# Altium footprint library sanziqi_v1.2.PcbLib: 32 footprints (part 1 of 2)
Each footprint in its own frame and in the unit in brackets; x right, y up, seen from the top. Pads: shape width x height; smd on the part's side, far side on the other; paste and mask are expansions set on the pad; w line width, h text height; cw(c..) or ccw(c..) is an arc to the next point about the centre after c.
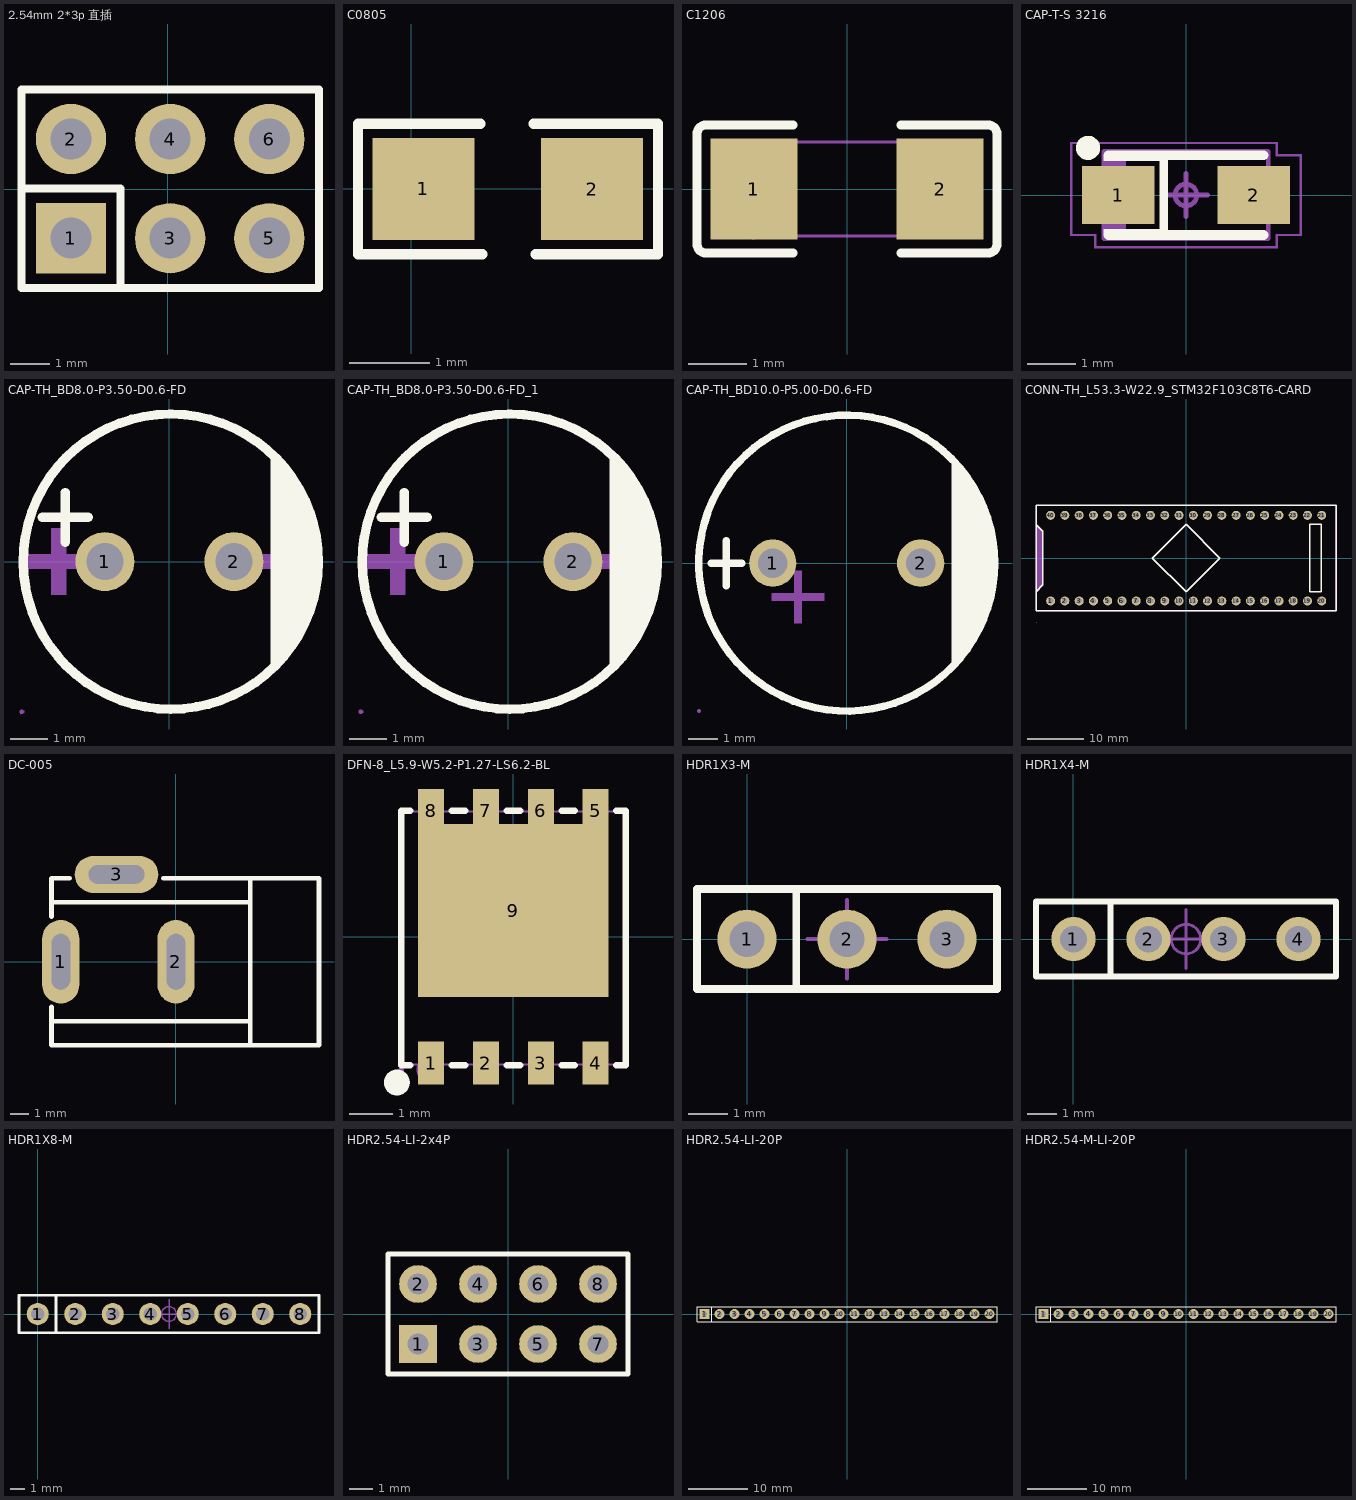
[diagram p0: the footprints below, top view; thin cyan lines are the x and y axes]

## 2.54mm 2*3p 直插 [mm]
height 2
pads (6):
  rect 1.8x1.8 hole 1.05 paste+0 mask+0.051: 1(-2.48,-1.25)
  round 1.8 hole 1.05 paste+0 mask+0.051: 2(-2.48,1.29) 3(0.06,-1.25) 4(0.06,1.29) 5(2.6,-1.25) 6(2.6,1.29)
Top Overlay:
  lines w0.203: -3.75,0.022 -1.21,0.022 -1.21,-2.52 ; -0.998,-2.52 3.87,-2.52 ; 3.87,-2.52 -3.75,-2.52 -3.75,2.56 3.87,2.56 3.87,-2.52
Bottom Component Outline:
  region: 2.28,-0.93 2.92,-0.93 2.92,-1.57 2.28,-1.57
  region: 2.28,1.61 2.92,1.61 2.92,0.97 2.28,0.97
  region: -0.26,1.61 0.38,1.61 0.38,0.97 -0.26,0.97
  region: -0.26,-0.93 0.38,-0.93 0.38,-1.57 -0.26,-1.57
  region: -2.8,-0.93 -2.16,-0.93 -2.16,-1.57 -2.8,-1.57
  region: -2.8,1.61 -2.16,1.61 -2.16,0.97 -2.8,0.97
  region: -3.69,-2.48 -3.69,-2.455 -3.725,-2.42 -3.775,-2.42 -3.81,-2.455 -3.81,-2.48 -3.81,-2.505 -3.775,-2.54 -3.725,-2.54 -3.69,-2.505
  lines w0.051: -3.75,-2.48 3.87,-2.48 3.87,2.52 -3.75,2.52 -3.75,-2.48

## C0805 [mil]
pads (2):
  rect 50x50 smd: 1(6,0) 2(88.7,-0.1)
Top Overlay:
  lines w5: 34,32 -26,32 -26,-15 -26,-32 35,-32 ; 60,32 121,32 121,15 121,-32 61,-32
3D body "User Library-0805 SMD Capacitor.STEP": height 30.39, standoff -0.39, extent 7.93,-24.5 86.67,24.71

## C1206 [mm]
pads (2):
  rect 1.485x1.728 smd paste-100 mask+0.051: 1(-1.593,0) 2(1.593,0)
Top Overlay:
  lines w0.152: -0.926,-1.093 -2.411,-1.093 cw(c-2.411,-0.94) -2.564,-0.94 -2.564,0.94 cw(c-2.411,0.94) -2.411,1.093 -0.926,1.093 ; 0.926,-1.093 2.411,-1.093 ccw(c2.411,-0.94) 2.564,-0.94 2.564,0.94 ccw(c2.411,0.94) 2.411,1.093 0.926,1.093
Top Paste:
  region: 0.85,-0.764 0.85,-0.394 0.95,-0.294 1.255,-0.294 1.355,-0.194 1.355,0.194 1.255,0.294 0.95,0.294 0.85,0.394 0.85,0.764 0.95,0.864 2.235,0.864 2.335,0.764 2.335,-0.764 2.235,-0.864 0.95,-0.864
  region: -0.85,-0.764 -0.85,-0.394 -0.95,-0.294 -1.255,-0.294 -1.355,-0.194 -1.355,0.194 -1.255,0.294 -0.95,0.294 -0.85,0.394 -0.85,0.764 -0.95,0.864 -2.235,0.864 -2.335,0.764 -2.335,-0.764 -2.235,-0.864 -0.95,-0.864
Mechanical 15:
  region: -1.54,-0.8 -1.541,-0.776 -1.576,-0.742 -1.624,-0.742 -1.659,-0.776 -1.66,-0.8 -1.659,-0.824 -1.624,-0.858 -1.576,-0.858 -1.541,-0.824 -1.54,-0.8
  region: -1.6,-0.8 -1.6,0.8 -1.1,0.8 -1.1,-0.8
  region: 1.6,-0.8 1.6,0.8 1.1,0.8 1.1,-0.8
  lines w0.051: -1.6,-0.8 -1.6,0.8 1.6,0.8 1.6,-0.8 -1.6,-0.8

## CAP-T-S 3216 [mm]
height 2
pads (2):
  rect 1.5x1.2 smd: 1(-1.4,0) 2(1.4,0)
Top Overlay:
  circle w0.25: c-2.025,0.975 r0.125
  rectangle: -0.55,-0.9 -0.375,0.85
  region: -0.375,-0.7 -1.7,-0.7 -1.7,-0.825 -0.375,-0.825
  rectangle: -1.7,0.7 -0.375,0.85
  lines w0.2: -1.6,-0.825 1.6,-0.825 ; -1.6,0.825 1.6,0.825
Top Component Center:
  circle w0.1: c0,0 r0.225
  lines w0.1: -0.45,0 0.45,0 ; 0,-0.45 0,0.45
Top Component Outline:
  region: -1.9,-1.05 -1.9,-1.1 1.9,-1.1 1.9,-1.05
  region: 2.4,0.85 2.35,0.85 2.35,-0.85 2.4,-0.85
  region: 1.9,1.05 1.9,1.1 -2.4,1.1 -2.4,1.05
  rectangle: -2.4,-0.85 -2.35,1.1
  region: 1.85,0.85 1.85,0.8 2.4,0.8 2.4,0.85
  rectangle: 1.85,0.8 1.9,1.1
  region: 2.4,-0.85 2.4,-0.8 1.85,-0.8 1.85,-0.85
  rectangle: 1.85,-1.1 1.9,-0.8
  region: -1.85,-0.85 -1.85,-0.8 -2.4,-0.8 -2.4,-0.85
  region: -1.85,-0.8 -1.9,-0.8 -1.9,-1.1 -1.85,-1.1
Top Designator:
  text ".Designator" at -2.252,-0.151 h1
Mechanical 13:
  rectangle: -1.7,-0.9 -1.243,0.9
  lines w0.1: -1.7,-0.9 1.7,-0.9 1.7,0.9 -1.7,0.9 -1.7,-0.9
3D body "TAJ-A.STEP": height 1.6, standoff 0, extent -1.6,-0.8 1.6,0.8

## CAP-TH_BD8.0-P3.50-D0.6-FD [mm]
pads (2):
  round 1.6 hole 1: 1(-1.75,0) 2(1.75,0)
Top Overlay:
  region: 2.75,-3 2.941,-2.8 3.268,-2.355 3.536,-1.872 3.741,-1.359 3.88,-0.824 3.95,-0.276 3.95,0.276 3.88,0.824 3.741,1.359 3.536,1.872 3.268,2.355 2.941,2.8 2.75,3
  lines w0.254: -3.445,1.2 -2.2,1.2 ; -2.822,0.527 -2.822,1.873 ; 0.003,4 ccw(c0.038,0.001) 0.074,4
Mechanical 6:
  region: -3.2,0.5 -3.2,-0.9 -2.8,-0.9 -2.8,0.7 -2.8,0.9 -3.2,0.9
  region: -2.5,0.2 -3.9,0.2 -3.9,-0.2 -2.3,-0.2 -2.1,-0.2 -2.1,0.2
  region: 3.5,0.2 2.1,0.2 2.1,-0.2 3.7,-0.2 3.9,-0.2 3.9,0.2
Mechanical 15:
  region: -1.45,0 -1.451,0.059 -1.498,0.167 -1.582,0.25 -1.691,0.294 -1.809,0.294 -1.918,0.25 -2.002,0.167 -2.049,0.059 -2.05,0 -2.049,-0.059 -2.002,-0.167 -1.918,-0.25 -1.809,-0.294 -1.691,-0.294 -1.582,-0.25 -1.498,-0.167 -1.451,-0.059 -1.45,0
  region: 2.05,0 2.049,0.059 2.002,0.167 1.918,0.25 1.809,0.294 1.691,0.294 1.582,0.25 1.498,0.167 1.451,0.059 1.45,0 1.451,-0.059 1.498,-0.167 1.582,-0.25 1.691,-0.294 1.809,-0.294 1.918,-0.25 2.002,-0.167 2.049,-0.059 2.05,0
  region: -3.941,-4.072 -3.941,-4.047 -3.976,-4.012 -4.026,-4.012 -4.061,-4.047 -4.061,-4.072 -4.061,-4.096 -4.026,-4.132 -3.976,-4.132 -3.941,-4.096 -3.941,-4.072
  lines w0.051: -0.003,-4.072 cw(c-0.001,-0.072) -0.001,3.928 cw(c-0.001,-0.072) 0,-4.072 -0.003,-4.072

## CAP-TH_BD8.0-P3.50-D0.6-FD_1 [mm]
pads (2):
  round 1.6 hole 1: 1(-1.75,0) 2(1.75,0)
Top Overlay:
  region: 2.75,-3 2.94,-2.8 3.268,-2.355 3.536,-1.872 3.741,-1.359 3.88,-0.824 3.95,-0.276 3.95,0.276 3.88,0.824 3.741,1.359 3.536,1.872 3.268,2.355 2.94,2.8 2.75,3
  lines w0.254: -3.445,1.2 -2.2,1.2 ; -2.822,0.527 -2.822,1.873 ; 0.002,4 ccw(c0.038,0.001) 0.074,4
Mechanical 6:
  region: -3.2,0.5 -3.2,-0.9 -2.8,-0.9 -2.8,0.7 -2.8,0.9 -3.2,0.9
  region: -2.5,0.2 -3.9,0.2 -3.9,-0.2 -2.3,-0.2 -2.1,-0.2 -2.1,0.2
  region: 3.5,0.2 2.1,0.2 2.1,-0.2 3.7,-0.2 3.9,-0.2 3.9,0.2
Mechanical 15:
  region: -1.45,0 -1.451,0.059 -1.498,0.167 -1.582,0.25 -1.691,0.294 -1.809,0.294 -1.918,0.25 -2.002,0.167 -2.049,0.059 -2.05,0 -2.049,-0.059 -2.002,-0.167 -1.918,-0.25 -1.809,-0.294 -1.691,-0.294 -1.582,-0.25 -1.498,-0.167 -1.451,-0.059 -1.45,0
  region: 2.05,0 2.049,0.059 2.002,0.167 1.918,0.25 1.809,0.294 1.691,0.294 1.582,0.25 1.498,0.167 1.451,0.059 1.45,0 1.451,-0.059 1.498,-0.167 1.582,-0.25 1.691,-0.294 1.809,-0.294 1.918,-0.25 2.002,-0.167 2.049,-0.059 2.05,0
  region: -3.941,-4.072 -3.941,-4.047 -3.976,-4.012 -4.026,-4.012 -4.061,-4.047 -4.061,-4.072 -4.061,-4.096 -4.026,-4.132 -3.976,-4.132 -3.941,-4.096 -3.941,-4.072
  lines w0.051: -0.003,-4.072 cw(c-0.001,-0.072) -0.001,3.928 cw(c-0.001,-0.072) 0,-4.072 -0.003,-4.072

## CAP-TH_BD10.0-P5.00-D0.6-FD [mm]
pads (2):
  round 1.6 hole 1 paste+0 mask+0.05: 1(-2.5,0) 2(2.5,0)
Top Overlay:
  circle w0.254: c0,0 r5
  region: 3.556,3.556 3.556,-3.556 4.318,-2.54 4.826,-1.016 5.08,0.508 4.826,1.524
  lines w0.254: -4.572,0 -3.556,0 ; -4.064,-0.762 -4.064,0.762
Mechanical 6:
  region: -1.778,-0.762 -1.778,-2.032 -1.524,-2.032 -1.524,-0.254 -1.778,-0.254
  region: -2.54,-1.016 -0.762,-1.016 -0.762,-1.27 -2.54,-1.27
Mechanical 15:
  region: -4.94,-5 -4.94,-4.975 -4.975,-4.94 -5.025,-4.94 -5.06,-4.975 -5.06,-5 -5.06,-5.025 -5.025,-5.06 -4.975,-5.06 -4.94,-5.025 -4.94,-5
  region: 2.8,0 2.799,0.059 2.752,0.167 2.668,0.25 2.559,0.294 2.441,0.294 2.332,0.25 2.248,0.167 2.201,0.059 2.2,0 2.201,-0.059 2.248,-0.167 2.332,-0.25 2.441,-0.294 2.559,-0.294 2.668,-0.25 2.752,-0.167 2.799,-0.059 2.8,0
  region: -2.2,0 -2.201,0.059 -2.248,0.167 -2.332,0.25 -2.441,0.294 -2.559,0.294 -2.668,0.25 -2.752,0.167 -2.799,0.059 -2.8,0 -2.799,-0.059 -2.752,-0.167 -2.668,-0.25 -2.559,-0.294 -2.441,-0.294 -2.332,-0.25 -2.248,-0.167 -2.201,-0.059 -2.2,0
  lines w0.051: -5,0 cw(c0,0) 5,0 cw(c0,0) -5,0

## CONN-TH_L53.3-W22.9_STM32F103C8T6-CARD [mm]
pads (40):
  round 1.6 hole 1: 1(-24.13,-7.62) 2(-21.59,-7.62) 3(-19.05,-7.62) 4(-16.51,-7.62) 5(-13.97,-7.62) 6(-11.43,-7.62) 7(-8.89,-7.62) 8(-6.35,-7.62) 9(-3.81,-7.62) 10(-1.27,-7.62) 11(1.27,-7.62) 12(3.81,-7.62) 13(6.35,-7.62) 14(8.89,-7.62) 15(11.43,-7.62) 16(13.97,-7.62) 17(16.51,-7.62) 18(19.05,-7.62) 19(21.59,-7.62) 20(24.13,-7.62) 21(24.13,7.62) 22(21.59,7.62) 23(19.05,7.62) 24(16.51,7.62) 25(13.97,7.62) 26(11.43,7.62) 27(8.89,7.62) 28(6.35,7.62) 29(3.81,7.62) 30(1.27,7.62) 31(-1.27,7.62) 32(-3.81,7.62) 33(-6.35,7.62) 34(-8.89,7.62) 35(-11.43,7.62) 36(-13.97,7.62) 37(-16.51,7.62) 38(-19.05,7.62) 39(-21.59,7.62) 40(-24.13,7.62)
Top Overlay:
  lines w0.254: -26.67,-5.945 -25.5,-4.775 -25.5,4 -25.5,4.798 -26.67,5.968 ; -26.67,-9.398 26.67,-9.398 26.67,9.398 -26.67,9.398 -26.67,-9.398 ; -6,0 0,-6 6,0 0,6 -6,0 ; 22,-6 22,6 24,6 24,-6 22,-6
Mechanical 6:
  region: -26.67,5.968 -25.5,4.798 -25.5,-4.775 -26.67,-5.945
Mechanical 15:
  drawing of 45 lines, arcs and shapes, not listed

## DC-005 [mm] "DC母座5.5mm"
height 12.75
pads (3):
  oval 2x4.5 hole 1 slot 3 at 90 deg: 1(-6.2,0) 2(0,0)
  oval 4.5x2 hole 1 slot 3 at 0 deg: 3(-3.2,4.7)
Top Overlay:
  lines w0.254: -6.7,-3.2 3.92,-3.2 ; -6.7,-2.424 -6.7,-4.5 7.7,-4.5 7.7,4.5 -0.685,4.5 ; -6.7,2.425 -6.7,4.5 -5.715,4.5 ; -6.7,3.2 3.92,3.2 ; 4,-4.5 4,4.5
3D body "DC-005.STEP": height 11.25, standoff -3.75, extent -6.55,-4.5 7.5,4.8

## DFN-8_L5.9-W5.2-P1.27-LS6.2-BL [mm]
pads (9):
  rect 0.6x1 smd paste-100 mask+0.05: 1(-1.905,-2.925) 2(-0.635,-2.925) 3(0.635,-2.925) 4(1.905,-2.925) 5(1.905,2.925) 6(0.635,2.925) 7(-0.635,2.925) 8(-1.905,2.925)
  rect 4.41x4 smd paste-100 mask+0.05: 9(0,0.61)
Top Overlay:
  circle w0.3: c-2.7,-3.375 r0.15
  lines w0.152: -2.385,-2.975 -2.6,-2.975 -2.6,2.925 -2.385,2.925 ; -1.425,-2.975 -1.115,-2.975 ; -1.425,2.925 -1.115,2.925 ; -0.155,-2.975 0.155,-2.975 ; -0.155,2.925 0.155,2.925 ; 1.115,-2.975 1.425,-2.975 ; 1.115,2.925 1.425,2.925 ; 2.385,-2.975 2.6,-2.975 2.6,2.925 2.385,2.925
Top Paste:
  region: 2.205,3.425 1.605,3.425 1.605,2.61 0.935,2.61 0.935,3.425 0.335,3.425 0.335,2.61 -0.335,2.61 -0.335,3.425 -0.935,3.425 -0.935,2.61 -1.605,2.61 -1.605,3.425 -2.205,3.425 -2.205,-1.39 2.205,-1.39
  region: 1.605,-3.425 2.205,-3.425 2.205,-2.425 1.605,-2.425
  region: 0.335,-3.425 0.935,-3.425 0.935,-2.425 0.335,-2.425
  region: -0.935,-3.425 -0.335,-3.425 -0.335,-2.425 -0.935,-2.425
  region: -2.205,-3.425 -1.605,-3.425 -1.605,-2.425 -2.205,-2.425
Mechanical 6:
  circle w0.3: c-1.95,-3.075 r0.15
Mechanical 15:
  region: -2.54,-3.075 -2.54,-3.051 -2.575,-3.016 -2.624,-3.016 -2.659,-3.051 -2.66,-3.075 -2.659,-3.1 -2.624,-3.134 -2.575,-3.134 -2.54,-3.1 -2.54,-3.075
  region: -2.105,3.075 -1.705,3.075 -1.705,2.475 -2.105,2.475
  region: -0.835,3.075 -0.435,3.075 -0.435,2.475 -0.835,2.475
  region: 0.435,3.075 0.835,3.075 0.835,2.475 0.435,2.475
  region: 1.705,3.075 2.105,3.075 2.105,2.475 1.705,2.475
  region: 1.705,-2.475 2.105,-2.475 2.105,-3.075 1.705,-3.075
  region: 0.435,-2.475 0.835,-2.475 0.835,-3.075 0.435,-3.075
  region: -0.835,-2.475 -0.435,-2.475 -0.435,-3.075 -0.835,-3.075
  region: -2.105,-2.475 -1.705,-2.475 -1.705,-3.075 -2.105,-3.075
  region: -2.125,-1.27 -2.125,2.55 2.125,2.55 2.125,-1.27
  lines w0.051: -2.6,-2.955 -2.6,2.905 2.6,2.905 2.6,-2.955 -2.6,-2.955

## HDR1X3-M [mm]
height 2
pads (3):
  round 1.5 hole 0.9: 1(0,0) 2(2.54,0) 3(5.08,0)
Top Overlay:
  lines w0.2: 1.25,-1.25 1.25,1.25 ; -1.27,-1.27 -1.27,1.27 6.35,1.27 6.35,-1.27 -1.27,-1.27
Top Component Center:
  circle w0.1: c2.54,0 r0.5
  lines w0.1: 1.54,0 3.54,0 ; 2.54,-1 2.54,1
Top Component Outline:
  lines w0.1: -1.27,-1.27 -1.27,1.275 6.35,1.275 6.35,-1.27 -1.27,-1.27
Top Designator:
  text ".Designator" at 0.288,-0.226 h1
3D body "1001-3.STEP": height 8.54, standoff -3, extent -1.27,-1.27 6.35,1.27

## HDR1X4-M [mm]
height 2
pads (4):
  round 1.5 hole 0.9: 1(0,0) 2(2.54,0) 3(5.08,0) 4(7.62,0)
Top Overlay:
  lines w0.2: 1.25,-1.25 1.25,1.25 ; -1.27,-1.27 8.89,-1.27 8.89,1.27 -1.27,1.27 -1.27,-1.27
Top Component Center:
  circle w0.1: c3.81,0 r0.5
  lines w0.1: 2.81,0 4.81,0 ; 3.81,-1 3.81,1
Top Component Outline:
  lines w0.1: -1.27,-1.27 -1.27,1.275 8.89,1.275 8.89,-1.27 -1.27,-1.27
Top Designator:
  text ".Designator" at 1.558,-0.226 h1
3D body "1001-4.STEP": height 8.54, standoff -3, extent -1.27,-1.27 8.89,1.27

## HDR1X8-M [mm]
height 2
pads (8):
  round 1.5 hole 0.9: 1(0,0) 2(2.54,0) 3(5.08,0) 4(7.62,0) 5(10.16,0) 6(12.7,0) 7(15.24,0) 8(17.78,0)
Top Overlay:
  lines w0.2: 1.25,-1.25 1.25,1.25 ; -1.27,-1.27 19.05,-1.27 19.05,1.27 -1.27,1.27 -1.27,-1.27
Top Component Center:
  circle w0.1: c8.89,0 r0.5
  lines w0.1: 7.89,0 9.89,0 ; 8.89,-1 8.89,1
Top Component Outline:
  lines w0.1: -1.27,-1.27 19.05,-1.27 19.05,1.27 -1.27,1.27 -1.27,-1.27
Top Designator:
  text ".Designator" at 6.638,-0.226 h1
3D body "1001-8.STEP": height 8.54, standoff -3, extent -1.27,-1.27 19.05,1.27

## HDR2.54-LI-2x4P [mm] "双排排针，4x2脚"
pads (8):
  rect 1.6x1.6 hole 0.9: 1(-3.81,-1.27)
  round 1.6 hole 0.9: 2(-3.81,1.27) 3(-1.27,-1.27) 4(-1.27,1.27) 5(1.27,-1.27) 6(1.27,1.27) 7(3.81,-1.27) 8(3.81,1.27)
Top Overlay:
  lines w0.2: -2.328,-2.54 5.08,-2.54 5.08,2.54 -5.08,2.54 -5.08,-2.54 2.54,-2.54
3D body "HDR2.54-1x2P.STEP": height 8.5, standoff -3, extent 0,-2.54 2.54,2.54
3D body "HDR2.54-1x2P.STEP": height 8.5, standoff -3, extent 2.54,-2.54 5.08,2.54
3D body "HDR2.54-1x2P.STEP": height 8.5, standoff -3, extent -5.08,-2.54 -2.54,2.54
3D body "HDR2.54-1x2P.STEP": height 8.5, standoff -3, extent -2.54,-2.54 0,2.54

## HDR2.54-LI-20P [mm] "排针，20脚"
pads (20):
  rect 1.7x1.7 hole 0.9: 1(-24.13,0)
  round 1.7 hole 0.9: 2(-21.59,0) 3(-19.05,0) 4(-16.51,0) 5(-13.97,0) 6(-11.43,0) 7(-8.89,0) 8(-6.35,0) 9(-3.81,0) 10(-1.27,0) 11(1.27,0) 12(3.81,0) 13(6.35,0) 14(8.89,0) 15(11.43,0) 16(13.97,0)
  round 1.7 hole 0.762: 17(16.51,0) 18(19.05,0) 19(21.59,0) 20(24.13,0)
Top Overlay:
  lines w0.2: -22.88,-1.25 -22.88,1.25 ; -25.4,-1.27 -25.4,1.27 -23.495,1.27 25.4,1.27 25.4,-1.27 -25.4,-1.27
3D body "HDR2.54-1P.STEP": height 2.54, standoff -8.96, extent -25.4,-1.27 -22.86,1.27
3D body "HDR2.54-1P.STEP": height 2.54, standoff -8.96, extent -22.86,-1.27 -20.32,1.27
3D body "HDR2.54-1P.STEP": height 2.54, standoff -8.96, extent -20.32,-1.27 -17.78,1.27
3D body "HDR2.54-1P.STEP": height 2.54, standoff -8.96, extent -17.78,-1.27 -15.24,1.27
3D body "HDR2.54-1P.STEP": height 2.54, standoff -8.96, extent -15.24,-1.27 -12.7,1.27
3D body "HDR2.54-1P.STEP": height 2.54, standoff -8.96, extent -12.7,-1.27 -10.16,1.27
3D body "HDR2.54-1P.STEP": height 2.54, standoff -8.96, extent -10.16,-1.27 -7.62,1.27
3D body "HDR2.54-1P.STEP": height 2.54, standoff -8.96, extent -7.62,-1.27 -5.08,1.27
3D body "HDR2.54-1P.STEP": height 2.54, standoff -8.96, extent -5.08,-1.27 -2.54,1.27
3D body "HDR2.54-1P.STEP": height 2.54, standoff -8.96, extent -2.54,-1.27 0,1.27
3D body "HDR2.54-1P.STEP": height 2.54, standoff -8.96, extent 0,-1.27 2.54,1.27
3D body "HDR2.54-1P.STEP": height 2.54, standoff -8.96, extent 2.54,-1.27 5.08,1.27
3D body "HDR2.54-1P.STEP": height 2.54, standoff -8.96, extent 5.08,-1.27 7.62,1.27
3D body "HDR2.54-1P.STEP": height 2.54, standoff -8.96, extent 7.62,-1.27 10.16,1.27
3D body "HDR2.54-1P.STEP": height 2.54, standoff -8.96, extent 10.16,-1.27 12.7,1.27
3D body "HDR2.54-1P.STEP": height 2.54, standoff -8.96, extent 12.7,-1.27 15.24,1.27
3D body "HDR2.54-1P.STEP": height 2.54, standoff -8.96, extent 15.24,-1.27 17.78,1.27
3D body "HDR2.54-1P.STEP": height 2.54, standoff -8.96, extent 17.78,-1.27 20.32,1.27
3D body "HDR2.54-1P.STEP": height 2.54, standoff -8.96, extent 20.32,-1.27 22.86,1.27
3D body "HDR2.54-1P.STEP": height 2.54, standoff -8.96, extent 22.86,-1.27 25.4,1.27

## HDR2.54-M-LI-20P [mm] "排母，20脚"
pads (20):
  rect 1.7x1.7 hole 0.9: 1(-24.13,0)
  round 1.7 hole 0.9: 2(-21.59,0) 3(-19.05,0) 4(-16.51,0) 5(-13.97,0) 6(-11.43,0) 7(-8.89,0) 8(-6.35,0) 9(-3.81,0) 10(-1.27,0) 11(1.27,0) 12(3.81,0) 13(6.35,0) 14(8.89,0) 15(11.43,0) 16(13.97,0)
  round 1.7 hole 0.762: 17(16.51,0) 18(19.05,0) 19(21.59,0) 20(24.13,0)
Top Overlay:
  lines w0.2: -22.88,-1.25 -22.88,1.25 ; -25.4,-1.27 -25.4,1.27 -23.495,1.27 25.4,1.27 25.4,-1.27 -25.4,-1.27
3D body "HDR2.54-1P_M.STEP": height 8.5, standoff -3, extent -22.86,-1.27 -20.32,1.27
3D body "HDR2.54-1P_M.STEP": height 8.5, standoff -3, extent -25.4,-1.27 -22.86,1.27
3D body "HDR2.54-1P_M.STEP": height 8.5, standoff -3, extent -17.78,-1.27 -15.24,1.27
3D body "HDR2.54-1P_M.STEP": height 8.5, standoff -3, extent -20.32,-1.27 -17.78,1.27
3D body "HDR2.54-1P_M.STEP": height 8.5, standoff -3, extent -12.7,-1.27 -10.16,1.27
3D body "HDR2.54-1P_M.STEP": height 8.5, standoff -3, extent -15.24,-1.27 -12.7,1.27
3D body "HDR2.54-1P_M.STEP": height 8.5, standoff -3, extent -7.62,-1.27 -5.08,1.27
3D body "HDR2.54-1P_M.STEP": height 8.5, standoff -3, extent -10.16,-1.27 -7.62,1.27
3D body "HDR2.54-1P_M.STEP": height 8.5, standoff -3, extent -2.54,-1.27 0,1.27
3D body "HDR2.54-1P_M.STEP": height 8.5, standoff -3, extent -5.08,-1.27 -2.54,1.27
3D body "HDR2.54-1P_M.STEP": height 8.5, standoff -3, extent 0,-1.27 2.54,1.27
3D body "HDR2.54-1P_M.STEP": height 8.5, standoff -3, extent 7.62,-1.27 10.16,1.27
3D body "HDR2.54-1P_M.STEP": height 8.5, standoff -3, extent 5.08,-1.27 7.62,1.27
3D body "HDR2.54-1P_M.STEP": height 8.5, standoff -3, extent 12.7,-1.27 15.24,1.27
3D body "HDR2.54-1P_M.STEP": height 8.5, standoff -3, extent 10.16,-1.27 12.7,1.27
3D body "HDR2.54-1P_M.STEP": height 8.5, standoff -3, extent 17.78,-1.27 20.32,1.27
3D body "HDR2.54-1P_M.STEP": height 8.5, standoff -3, extent 15.24,-1.27 17.78,1.27
3D body "HDR2.54-1P_M.STEP": height 8.5, standoff -3, extent 22.86,-1.27 25.4,1.27
3D body "HDR2.54-1P_M.STEP": height 8.5, standoff -3, extent 20.32,-1.27 22.86,1.27
3D body "HDR2.54-1P_M.STEP": height 8.5, standoff -3, extent 2.54,-1.27 5.08,1.27